# Altium schematic symbol library Regulators.SchLib: 7 symbols
Pins are listed as number, name and electrical type; pins without a type are passive.

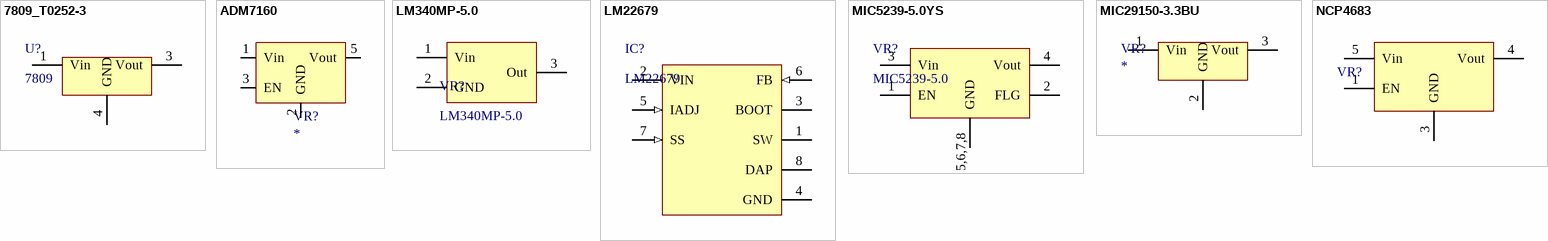
[diagram p0: symbols 7809_T0252-3 to NCP4683]

## 7809_T0252-3
designator U?, comment 7809
9V linear regulator; Supplier 1: Farnell; Supplier Part Number 1: 2546745
footprint 7809_T0252-3
pins: 1 Vin, 3 Vout, 4 GND

## ADM7160
designator VR?
Supplier 1: Farnell; Supplier Part Number 1: 2457153
footprint SOT95P285X90-5N (SOT23, 5-Leads, Body 2.90x2.85mm, Pitch 0.95mm, IPC Medium Density)
pins: 1 Vin, 2 GND, 3 EN, 4 NC hidden, 5 Vout

## LM340MP-5.0
designator VR?
LM340MP Regulator 5V; Supplier 1: Farnell; Supplier Part Number 1: 1469097
footprint LM340MP (SOT223 LM340MP Series)
pins: 1 Vin, 2 GND, 3 Out

## LM22679
designator IC?
LM22679TJ-ADJ/NOPB; Supplier 1: Digi-Key; Supplier 2: Farnell; Supplier 3: Farnell; Supplier 4: Mouser; Supplier 5: RSComponents; Supplier Part Number 5: 6606121; Supplier Part Number 4: 926-LM22679TJADJNOPB; Supplier Part Number 3: 1657731; Supplier Part Number 2: 3121467; Supplier Part Number 1: LM22679TJ-ADJ/NOPBCT-ND
footprint NDR0007A_M
footprint NDR0007A_N
footprint NDR0007A_L
pins: 1 SW (power), 2 VIN (power), 3 BOOT, 4 GND (power), 5 IADJ (in), 6 FB (in), 7 SS (in), 8 DAP (power)

## MIC5239-5.0YS
designator VR?, comment MIC5239-5.0
5v 500ma voltage regulator with enable and FLAG
footprint SOIC127P600X173-8N (SOIC, 8-Leads, Body 4.92x3.90mm, Pitch 1.27mm, IPC Medium Density)
pins: 1 EN, 2 FLG, 3 Vin, 4 Vout, 5,6,7,8 GND

## MIC29150-3.3BU
designator VR?
3.3v LDO Regulator 3A; Supplier 1: Farnell; Supplier Part Number 1: 2510017
footprint DPAK228P1524X460-3N (D2-PAK, 3-Pads, Body 7.68x8.69mm (max), IPC Medium Density)
pins: 1 Vin, 2 GND, 3 Vout, 4 T hidden

## NCP4683
designator VR?  (value not drawn)
Supplier 1: Farnell; Supplier Part Number 1: 2464279
footprint SOT353--sc-70 (SOT23, 5-Leads, Body 2.00x2.10mm, Pitch 0.65mm, IPC Medium Density)
pins: 1 EN, 2 NC hidden, 3 GND, 4 Vout, 5 Vin